# EAGLE library part SPBT2632C2A (library myLib)
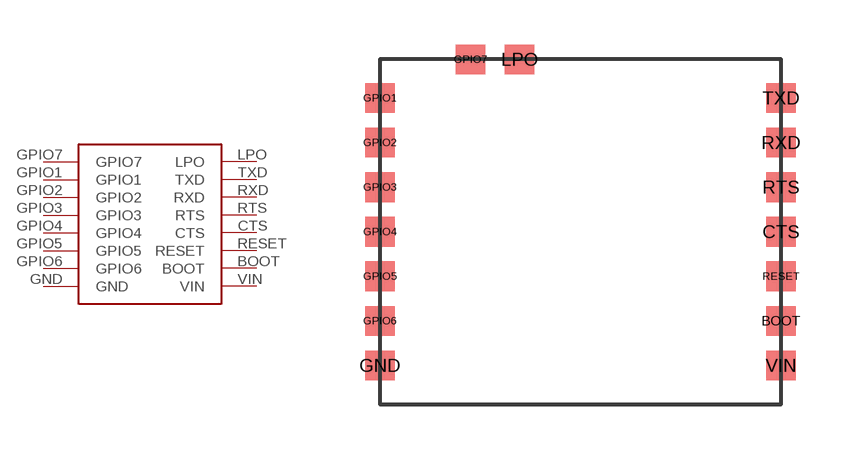
[diagram p3: symbol with the pads of SPBT2632C2A; footprint SPBT2632C2A]

Designator prefix -

## SPBT2632C2ASMD  [SPBT2632C2A]
BOOT  BOOT
CTS  CTS
GND  GND  pwr
GPIO1  GPIO1
GPIO2  GPIO2
GPIO3  GPIO3
GPIO4  GPIO4
GPIO5  GPIO5
GPIO6  GPIO6
GPIO7  GPIO7
LPO  LPO  in
RESET  RESET
RTS  RTS
RXD  RXD
TXD  TXD
VIN  VIN  pwr

## Footprint SPBT2632C2A (pad centres in mm)
smd 1 x 1: BOOT 13.5,2.8; CTS 13.5,5.8; GND 0,1.3; GPIO1 0,10.3; GPIO2 0,8.8; GPIO3 0,7.3; GPIO4 0,5.8; GPIO5 0,4.3; GPIO6 0,2.8; GPIO7 3.05,11.6; LPO 4.7,11.6; RESET 13.5,4.3; RTS 13.5,7.3; RXD 13.5,8.8; TXD 13.5,10.3; VIN 13.5,1.3